# Altium footprint library MZW.PcbLib: 20 footprints (part 1 of 2)
Each footprint in its own frame and in the unit in brackets; x right, y up, seen from the top. Pads: shape width x height; smd on the part's side, far side on the other; paste and mask are expansions set on the pad; w line width, h text height; cw(c..) or ccw(c..) is an arc to the next point about the centre after c.
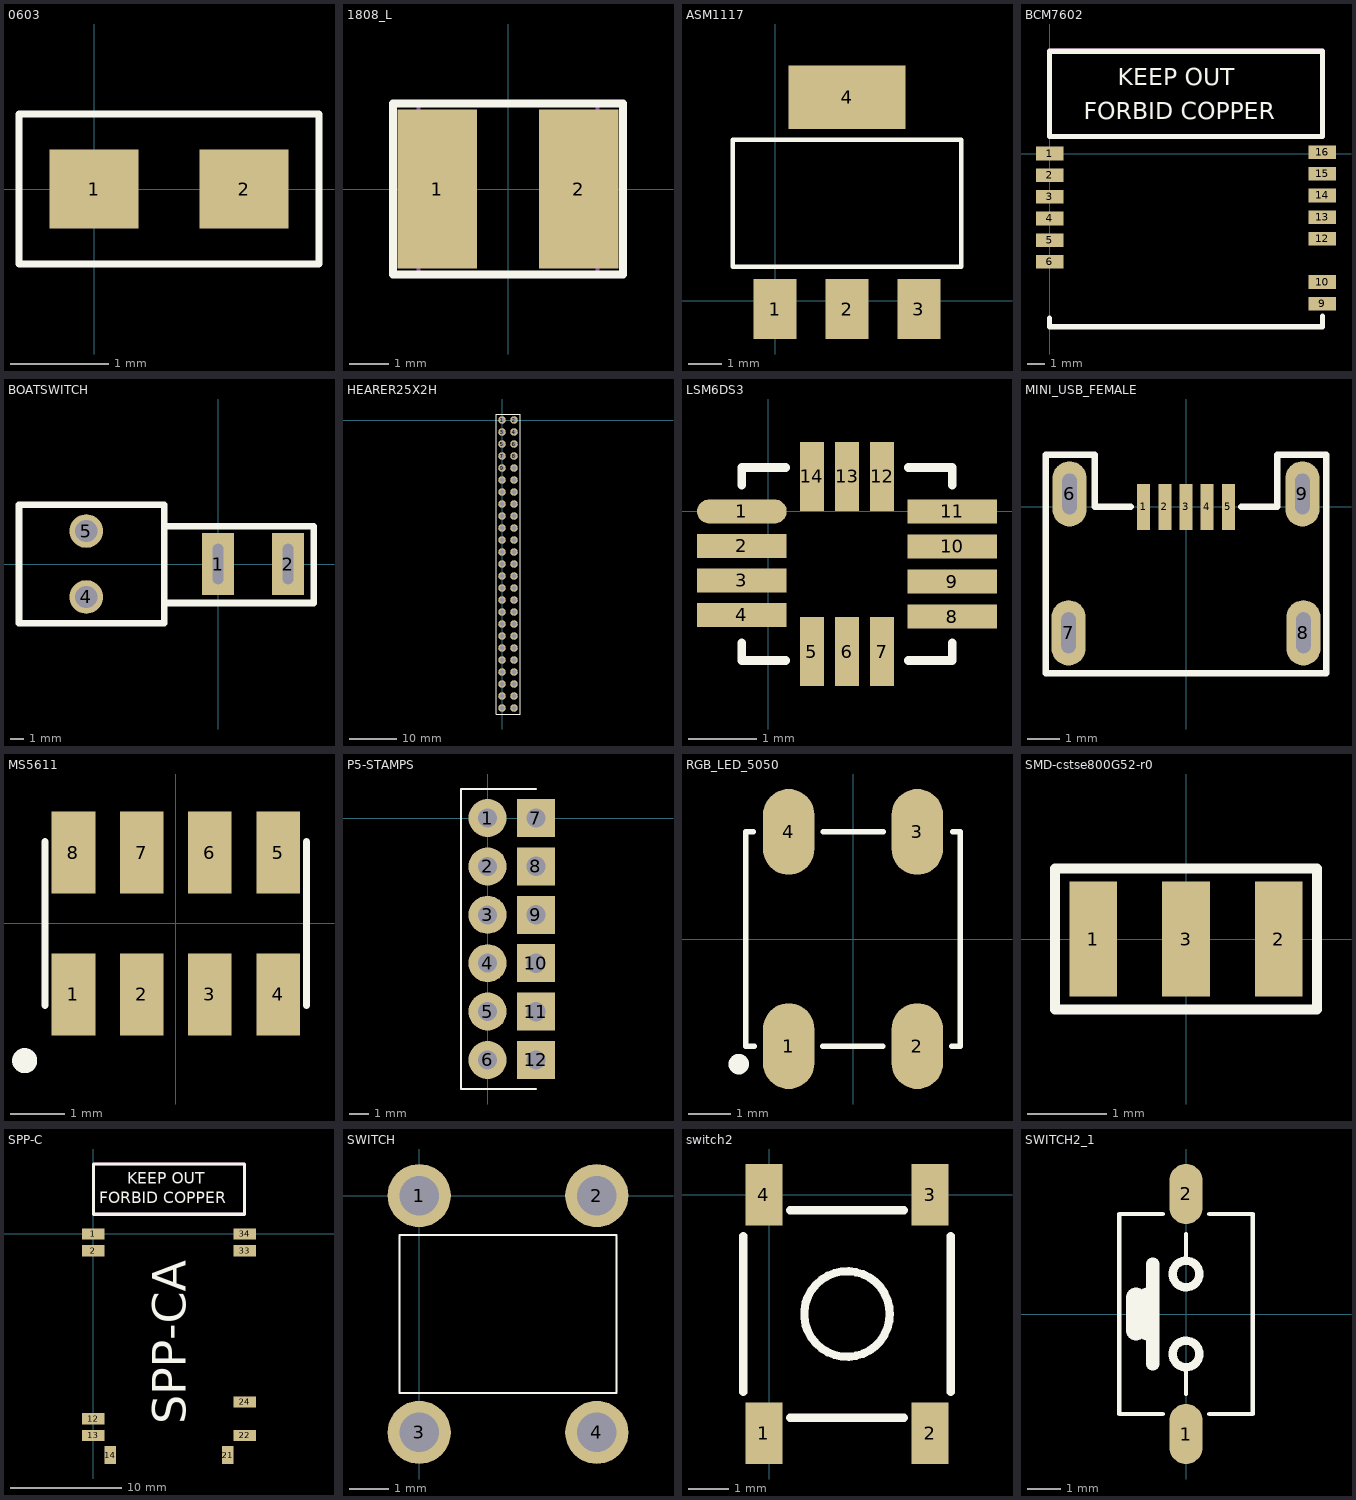
[diagram p0: the footprints below, top view; thin cyan lines are the x and y axes]

## 0603 [mm]
height 2
pads (2):
  rect 0.9x0.8 smd: 1(0,0) 2(1.524,0)
Top Overlay:
  lines w0.07: -0.762,-0.762 -0.762,0.762 2.286,0.762 2.286,-0.762 -0.762,-0.762

## 1808_L [mm]
pads (2):
  rect 2x4 smd: 1(-1.778,0) 2(1.778,0)
Top Overlay:
  lines w0.2: -2.9,-2.159 -2.9,2.159 2.9,2.159 2.9,-2.159 -2.9,-2.159
Mechanical 13:
  lines w0.1: -2.25,-2.159 -2.25,2.159 2.25,2.159 2.25,-2.159 -2.25,-2.159

## ASM1117 [mm]
height 3
pads (4):
  rect 1.3x1.8 smd: 1(0,-0.254) 2(2.159,-0.254) 3(4.318,-0.254)
  rect 3.5x1.9 smd: 4(2.159,6.096)
Top Overlay:
  lines w0.127: -1.27,1.016 5.588,1.016 5.588,4.826 -1.27,4.826 -1.27,1.016

## BCM7602 [mm]
height 2
pads (13):
  rect 1.6x0.8 smd: 1(0,0) 2(0,-1.27) 3(0,-2.54) 4(0,-3.81) 5(0,-5.08) 6(0,-6.35) 9(16,-8.81) 10(16,-7.54) 12(16,-5) 13(16,-3.73) 14(16,-2.46) 15(16,-1.19) 16(16,0.08)
Top Overlay:
  lines w0.3: 0,-9.652 0,-10.16 16.002,-10.16 16.002,-9.525 ; 0,1 16,1 16,6 0,6 0,1
  text "KEEP OUT" at 4,4 h1
  text "FORBID COPPER" at 2,2 h1
Keep-Out Layer:
  lines w0.3: 0,1 16,1 16,6 0,6 0,1

## BOATSWITCH [mm]
height 10
pads (4):
  rect 2.4x4.6 hole 0.8 slot 3 at 90 deg: 1(0,0) 2(5.2,0)
  round 2.5 hole 1.65: 4(-9.8,-2.45) 5(-9.8,2.45)
Top Overlay:
  lines w0.5: -3.8,-2.9 7.1,-2.9 7.1,2.8 -3.8,2.8 ; -14.8,-4.4 -14.8,4.4 -4,4.4 -4,-4.4 -14.8,-4.4

## HEARER25X2H [mm]
height 10
pads (50):
  round 1.6 hole 1: 1(0,0) 2(2.54,0) 3(0,-2.54) 4(2.54,-2.54) 5(0,-5.08) 6(2.54,-5.08) 7(0,-7.62) 8(2.54,-7.62) 9(0,-10.16) 10(2.54,-10.16) 11(0,-12.7) 12(2.54,-12.7) 13(0,-15.24) 14(2.54,-15.24) 15(0,-17.78) 16(2.54,-17.78) 17(0,-20.32) 18(2.54,-20.32) 19(0,-22.86) 20(2.54,-22.86) 21(0,-25.4) 22(2.54,-25.4) 23(0,-27.94) 24(2.54,-27.94) 25(0,-30.48) 26(2.54,-30.48) 27(0,-33.02) 28(2.54,-33.02) 29(0,-35.56) 30(2.54,-35.56) 31(0,-38.1) 32(2.54,-38.1) 33(0,-40.64) 34(2.54,-40.64) 35(0,-43.18) 36(2.54,-43.18) 37(0,-45.72) 38(2.54,-45.72) 39(0,-48.26) 40(2.54,-48.26) 41(0,-50.8) 42(2.54,-50.8) 43(0,-53.34) 44(2.54,-53.34) 45(0,-55.88) 46(2.54,-55.88) 47(0,-58.42) 48(2.54,-58.42) 49(0,-60.96) 50(2.54,-60.96)
Top Overlay:
  lines w0.25: -1.27,-62.23 -1.27,1.27 3.81,1.27 3.81,-62.23 -1.27,-62.23

## LSM6DS3 [mm]
height 2
pads (14):
  oval 1.3x0.35 smd mask+0.05: 1(-0.381,0)
  rect 1.3x0.35 smd mask+0.05: 2(-0.381,-0.5) 3(-0.381,-1) 4(-0.381,-1.5) 8(2.667,-1.524) 9(2.667,-1.016) 10(2.667,-0.508) 11(2.667,0)
  rect 0.35x1 smd mask+0.05: 5(0.635,-2.032) 6(1.143,-2.032) 7(1.651,-2.032) 12(1.651,0.508) 13(1.143,0.508) 14(0.635,0.508)
Top Overlay:
  lines w0.127: -0.381,-1.905 -0.381,-2.159 0.254,-2.159 ; -0.381,0.381 -0.381,0.635 0.254,0.635 ; 2.032,-2.159 2.667,-2.159 2.667,-1.905 ; 2.032,0.635 2.667,0.635 2.667,0.381

## MINI_USB_FEMALE [mm]
pads (9):
  rect 0.4x1.4 smd: 1(-1.3,0) 2(-0.65,0) 3(0,0) 4(0.65,0) 5(1.3,0)
  oval 1.05x2 hole 0.45 slot 1.25 at 90 deg: 6(-3.57,0.4) 7(-3.6,-3.86) 8(3.6,-3.86) 9(3.57,0.4)
Top Overlay:
  lines w0.05: 3.2,-3.86 3.94,-3.86
  lines w0.2: -1.7,0 -2.8,0 -2.8,1.6 -4.3,1.6 -4.3,-5.1 4.3,-5.1 4.3,1.6 2.8,1.6 2.8,0 1.7,0

## MS5611 [mm]
height 2
pads (8):
  rect 0.8x1.5 smd: 1(-1.875,-1.3) 2(-0.625,-1.3) 3(0.625,-1.3) 4(1.875,-1.3) 5(1.875,1.3) 6(0.625,1.3) 7(-0.625,1.3) 8(-1.875,1.3)
Top Overlay:
  circle w0.25: c-2.769,-2.515 r0.105
  lines w0.127: -2.4,-1.5 -2.4,1.5 ; 2.4,-1.5 2.4,1.5

## P5-STAMPS [mm]
height 2.54
pads (12):
  round 2 hole 1: 1(0,0) 2(0,-2.54) 3(0,-5.08) 4(0,-7.62) 5(0,-10.16) 6(0,-12.7)
  rect 2x2 hole 1.016: 7(2.54,0) 8(2.54,-2.54) 9(2.54,-5.08) 10(2.54,-7.62) 11(2.54,-10.16) 12(2.54,-12.7)
Top Overlay:
  lines w0.127: 2.54,-14.224 -1.397,-14.224 -1.397,1.524 2.54,1.524

## RGB_LED_5050 [mm]
height 2
pads (4):
  oval 1.2x2 smd: 1(-1.5,-2.5) 2(1.5,-2.5) 3(1.5,2.5) 4(-1.5,2.5)
Top Overlay:
  circle w0.25: c-2.667,-2.921 r0.114
  lines w0.127: -2.326,2.5 -2.5,2.5 -2.5,-2.5 -2.3,-2.5 ; -0.711,-2.5 0.697,-2.5 ; -0.697,2.5 0.711,2.5 ; 2.3,-2.5 2.5,-2.5 2.5,2.5 2.326,2.5

## SMD-cstse800G52-r0 [mm]
pads (3):
  rect 0.6x1.45 smd: 1(-1.168,0) 2(1.168,0) 3(0,0)
Top Overlay:
  lines w0.127: -1.651,-0.889 -1.651,0.889 1.651,0.889 1.651,-0.889 -1.651,-0.889

## SPP-C [mm]
pads (10):
  rect 2x1 smd: 1(0,0) 2(0,-1.5) 12(0,-16.5) 13(0,-18) 22(13.5,-18) 24(13.5,-15) 33(13.5,-1.5) 34(13.5,0)
  rect 1x1.6 smd: 14(1.5,-19.75) 21(12,-19.75)
Top Overlay:
  lines w0.3: 0,1.75 0,6.25 13.5,6.25 13.5,1.75 0,1.75
  text "SPP-CA" at 8.25,-17 h3
  text "FORBID COPPER" at 0.5,2.75 h1
  text "KEEP OUT" at 3,4.5 h1
Keep-Out Layer:
  lines w0.3: 0,1.75 13.5,1.75 13.5,6.25 0,6.25 0,1.75

## SWITCH [mm]
height 2
pads (4):
  round 1.6 hole 1: 1(0,0) 2(4.5,0) 3(0,-6) 4(4.5,-6)
Top Overlay:
  lines w0.05: -0.5,-5 -0.5,-1 ; -0.5,-5 -0.5,-1 ; -0.5,-5 5,-5 5,-1 -0.5,-1

## switch2 [mm]
height 1
pads (4):
  rect 0.9x1.5 smd: 1(-0.127,-5.842) 2(3.937,-5.842) 3(3.937,0) 4(-0.127,0)
Top Overlay:
  circle w0.2: c1.905,-2.921 r1.047
  lines w0.2: -0.635,-4.826 -0.635,-1.016 ; 0.508,-5.461 3.302,-5.461 ; 0.508,-0.381 3.302,-0.381 ; 4.445,-4.826 4.445,-1.016

## SWITCH2_1 [mm]
height 2
pads (2):
  oval 1x1.8 smd: 1(0,-3.6) 2(0,3.6)
Top Overlay:
  circle w0.25: c0,1.2 r0.4
  circle w0.25: c0,-1.2 r0.4
  lines w0.127: -1.2,0.5 -1,0.7 ; -0.7,-3 -2,-3 -2,3 -0.7,3 ; 0,-2.4 0,-1.7 ; 0,1.6 0,2.4 ; 0.7,-3 2,-3 2,3 0.7,3
  lines w0.4: -1,-1.5 -1,1.5
  lines w0.6: -1.15,-0.5 -1.15,0.5 ; -1.5,-0.5 -1.5,0.5 -1.5,-0.5